# EAGLE library part BME280 (library ORBiT-Sensors)
Bosch BME280 Integrated Environmental Units The BME280 is an integrated environmental sensor developed specifically for mobile applications where size and low power consumption are key design constraints. The unit combines individual high linearity, and high accuracy sensors for pressure, humidity and temperature in an 8-pin metal-lid 2.5 x 2.5 x 0.93 mm3 LGA package. The BME280 designed for low current consumption (3.6 μA @ 1Hz), long term stability, and high EMC robustness. The humidity sensor features an extremely fast response time which supports performance requirements for emerging applications such as: context awareness, and high accuracy over a wide temperature range. The pressure sensor is an absolute barometric pressure sensor which features exceptionally high accuracy and resolution at very low noise. The integrated temperature sensor has been optimized for very low noise and high resolution. It is primarily used for temperature compensation of the pressure and humidity sensors, and can also be used for estimating ambient temperature. The BME280 supports a full suite of operating modes which provides the flexibility to optimize the device for power consumption, resolution, and filter performance. Technical data: Bosch BME280 Integrated Environmental Units <https://www.bosch-sensortec.com/bst/products/all_products/bme280>
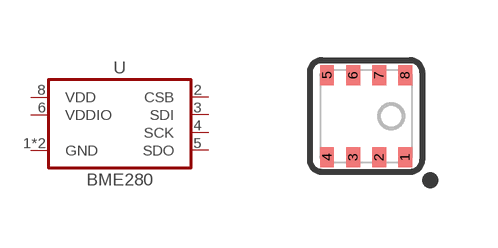
[diagram p0: symbol with the pads of BME280; footprint BME280]

Designator prefix U

## BME280 (MF: Bosch Sensortec; MPN: BME280; PN_DIGIKEY: 828-1063-1-ND; PN_MOUSER: 262-BME280)  [BME280]
1  GND  pwr
2  CSB  in
3  SDI
4  SCK
5  SDO  in
6  VDDIO  pwr
7  GND  pwr
8  VDD  pwr

## Footprint BME280 (pad centres in mm)
Bosch BME280 2.5 mm x 2.5 mm x 0.93 mm metal lid LGA
smd 0.35 x 0.5: 1 0.975,-1.025; 2 0.325,-1.025; 3 -0.325,-1.025; 4 -0.975,-1.025; 5 -0.975,1.025; 6 -0.325,1.025; 7 0.325,1.025; 8 0.975,1.025